# EAGLE library part OLED_0.91 (library custom)
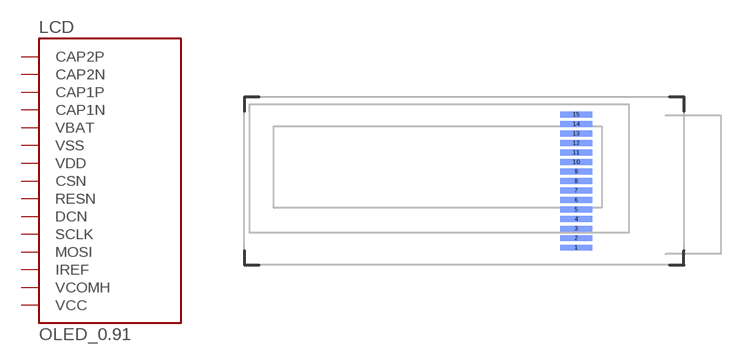
[diagram p109: symbol with the pads of OLED_0.91; footprint OLED_0.91]

Designator prefix LCD

## OLED_0.91  [OLED_0.91]
1  CAP2P
2  CAP2N
3  CAP1P
4  CAP1N
5  VBAT
6  VSS
7  VDD
8  CSN
9  RESN
10  DCN
11  SCLK
12  MOSI
13  IREF
14  VCOMH
15  VCC

## Footprint OLED_0.91 (pad centres in mm)
smd 2.2 x 0.4 bottom: 1 22.65,-10.31; 2 22.65,-9.66; 3 22.65,-9.01; 4 22.65,-8.36; 5 22.65,-7.71; 6 22.65,-7.06; 7 22.65,-6.41; 8 22.65,-5.76; 9 22.65,-5.11; 10 22.65,-4.46; 11 22.65,-3.81; 12 22.65,-3.16; 13 22.65,-2.51; 14 22.65,-1.86; 15 22.65,-1.21